# Altium schematic symbol library Soil MS.SchLib: 1 symbol
Pins are listed as number, name and electrical type; pins without a type are passive.

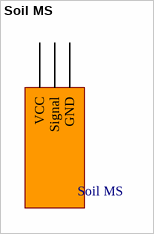
[diagram p0: symbol Soil MS]

## Soil MS
designator Soil MS  (value not drawn)
pins: 1 GND, 2 Signal, 3 VCC "3"